# EAGLE library part B9B-XH-A (library jst-xh)
Wire-to-Board 2.5mm pitch top mount connector Source: http://www.jst-mfg.com/product/pdf/jpn/XH.pdf http://www.jst-mfg.com/product/detail.php?series=277
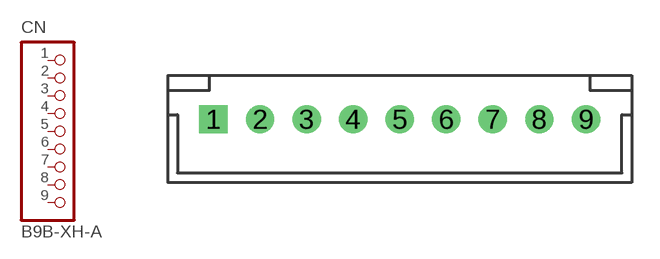
[diagram p3: symbol with the pads of B9B-XH-A; footprint B9B-XH-A]

Designator prefix CN

## B9B-XH-A  [B9B-XH-A]
1  1  pas
2  2  pas
3  3  pas
4  4  pas
5  5  pas
6  6  pas
7  7  pas
8  8  pas
9  9  pas

## Footprint B9B-XH-A (pad centres in mm)
drill 1.016 square: 1 -10,0
drill 1.016: 2 -7.5,0; 3 -5,0; 4 -2.5,0; 5 0,0; 6 2.5,0; 7 5,0; 8 7.5,0; 9 10,0